# Altium schematic symbol library V23079_2COIL.SchLib: 1 symbol
Pins are listed as number, name and electrical type; pins without a type are passive.

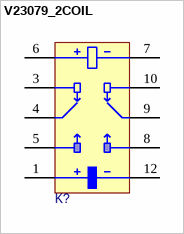
[diagram p0: symbol V23079_2COIL]

## V23079_2COIL
designator K?
pins: 1, 3, 4, 5, 6, 7, 8, 9, 10, 12
1 alternate drawing of the same symbol